# Altium schematic symbol library Capacitor.SchLib: 113 symbols (part 3 of 3)
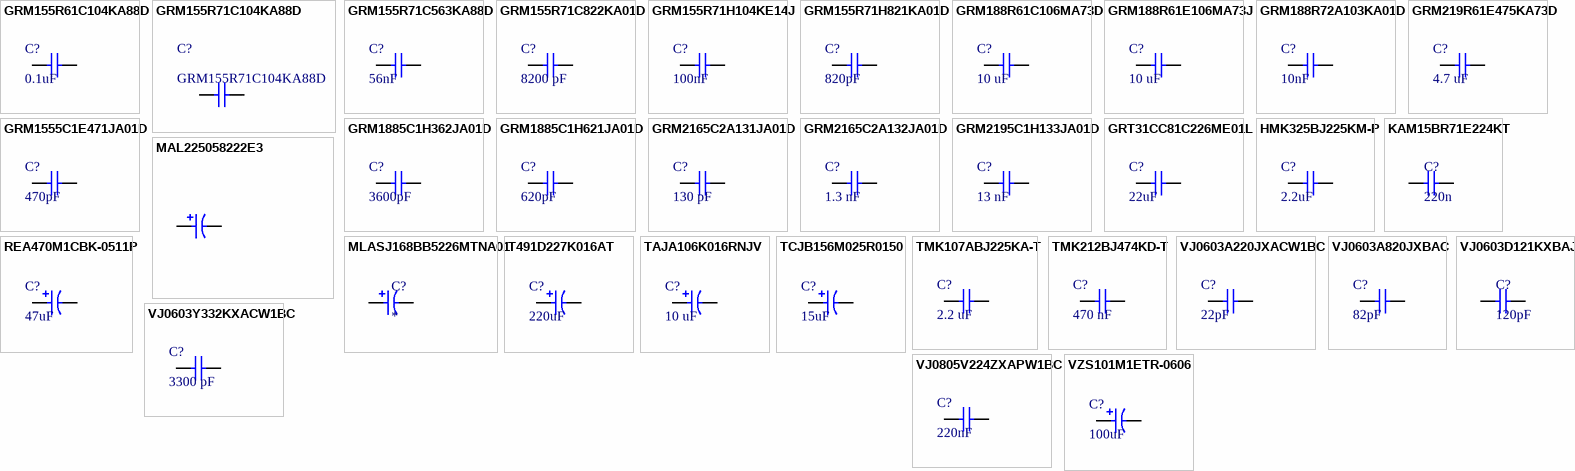
[diagram p4: symbols GRM155R61C104KA88D to VZS101M1ETR-0606]

## GRM155R71C104KA88D
designator C?
CAP CER 100nF 16V X7R 0402; Manufacturer: Murata; Dielectric Material: Ceramic; Multilayer: Yes; Tolerance  (fill in as +-): 10%; Supplier: Future Electronics; Supplier Part Number: 5964861; Part Number: GRM155R71C104KA88D; RoHS: Yes; Category: Ceramic Capacitors; Stock: 34430000; Pricing: 10000=0,0044, 40000=0,0043, 100000=0,0042, 250000=0,004, 400000=0,0039 (USD); Mounting Technology: Surface Mount; Pins: 2; Package Shape: Rectangular; Case/Package: 0402; Terminal Finish: Nickel; Min Operating Temperature: -55°C; Max Operating Temperature: 125°C; JESD-609 Code: e3; Value: 100nF; Capacitor Type: Ceramic; Package Style: SMTMeter; Packaging: Tape and Reel; Tolerance (fill in as +-): 10%; Rated DC Voltage (URdc): 16V; Temperature Characteristics Code: X7R; Termination: Wraparound; Length: 1mm; Width: 0.5mm; Height: 0.5mm; Reach SVHC Compliant: Yes; RoHS Compliant: Yes; ComponentLink1URL: https://psearch.en.murata.com:443/capacitor/product/GRM155R71C104KA88%23.pdf?src-supplier=IHS+Markit; ComponentLink1Description: https://psearch.en.murata.com:443/capacitor/product/GRM155R71C104KA88%23.pdf?src-supplier=IHS+Markit; ComponentLink2URL: https://datasheet.ciiva.com/18102/getdatasheetpartid-85307-18102905.pdf?src-supplier=Verical; ComponentLink2Description: https://datasheet.ciiva.com/18102/getdatasheetpartid-85307-18102905.pdf?src-supplier=Verical; ComponentLink3URL: https://datasheet.ciiva.com/129/grm155r71c104ka88-01-129739.pdf?src-supplier=Digikey; ComponentLink3Description: https://datasheet.ciiva.com/129/grm155r71c104ka88-01-129739.pdf?src-supplier=Digikey; ComponentLink4URL: https://datasheet.ciiva.com/129/grm155r71c104ka88-01-129740.pdf?src-supplier=Digikey; ComponentLink4Description: https://datasheet.ciiva.com/129/grm155r71c104ka88-01-129740.pdf?src-supplier=Digikey; ComponentLink5URL: https://datasheet.ciiva.com/29199/454098-da-01-en-vs-kondensator-0402-29199799.pdf?src-supplier=Conrad; ComponentLink5Description: https://datasheet.ciiva.com/29199/454098-da-01-en-vs-kondensator-0402-29199799.pdf?src-supplier=Conrad; ComponentLink6URL: https://datasheet.ciiva.com/7937/4360-7937615.pdf?src-supplier=Element14; ComponentLink6Description: https://datasheet.ciiva.com/7937/4360-7937615.pdf?src-supplier=Element14; ComponentLink7URL: https://datasheet.ciiva.com/28534/4360-28534127.pdf?src-supplier=Element14; ComponentLink7Description: https://datasheet.ciiva.com/28534/4360-28534127.pdf?src-supplier=Element14; ComponentLink8URL: https://datasheet.ciiva.com/28534/4360-28534133.pdf?src-supplier=Element14; ComponentLink8Description: https://datasheet.ciiva.com/28534/4360-28534133.pdf?src-supplier=Element14; ComponentLink9URL: https://datasheet.ciiva.com/14103/grmseries-highdielectrictype-eng-14103750.pdf?src-supplier=Distrelec; ComponentLink9Description: https://datasheet.ciiva.com/14103/grmseries-highdielectrictype-eng-14103750.pdf?src-supplier=Distrelec; ComponentLink10URL: https://datasheet.ciiva.com/14116/grmseries-highdielectrictype-eng-14116878.pdf?src-supplier=Distrelec; ComponentLink10Description: https://datasheet.ciiva.com/14116/grmseries-highdielectrictype-eng-14116878.pdf?src-supplier=Distrelec; ComponentLink11URL: https://datasheet.ciiva.com/16199/product-16199000.pdf?src-supplier=Future+Electronics; ComponentLink11Description: https://datasheet.ciiva.com/16199/product-16199000.pdf?src-supplier=Future+Electronics
footprint C0402
pins: 1, 2

## GRM155R71C563KA88D
designator C?, comment 56nF
CAP CER 56nF 16V X7R 0402; Manufacturer: MURATA ELECTRONICS; Part Number: GRM155R71C563KA88D; Tolerance: 10%; Library Control - Checked Footprint: Yes; Library Control - Person that Checked Footprint: Cage; Supplier 1: Mouser; Category: Ceramic capacitor; Price: 1=0.15 10=0.07 100=0.031 1000=0.017 (USD); Supplier Part Number 1: 81-GRM155R71C563KA8D; Library Ref: Capacitor; Operating Temperature: -55 ~125ºC; Package / Case: 0402(1005 metric); Size / Dimension: 0.5 mm W x 1 mm L x 0.5 mm H; Value: 56nF; Voltage - Rated: 16V; ESR: -; Dieletric: X7R; Library Control - Checked Schematic: Yes; Library Control - Last Update: 25/08/22; Library Control - Person that Checked Schematic: Cage; Library Control - Person that did the Last Update Footprint: Cage; Library Control - Person that did the Last Update Schematic: Cage; ComponentLink1Description: Datasheet; ComponentLink1URL: https://br.mouser.com/datasheet/2/281/GCM155R71H103KA55_01-1965603.pdf; ComponentLink2Description: Mouser Link; ComponentLink2URL: https://br.mouser.com/ProductDetail/Murata-Electronics/GCM155R71H103KA55D?qs=aEuGZpxfbxUFaK62TPaKIA%3D%3D
footprint C0402
pins: 1, 2

## GRM155R71C822KA01D
designator C?, comment 8200 pF
CAP CER 8.2nF 16V X7R 0402; Manufacturer: MURATA ELECTRONICS; Part Number: GRM155R71C822KA01D; Tolerance: 10%; Voltage - Rated: 16 VDC; Library Control - Checked Footprint: Yes; Library Control - Person that Checked Footprint: Cage; Supplier 1: Mouser; Category: Ceramic capacitor; Price: 1=0,10 10=0,04 100=0,018 1000=0,01 (USD); Supplier Part Number 1: 81-GRM155R71C822KA1D; Library Ref: Capacitor; Operating Temperature: -55°C ~ 125ºC; Package / Case: 0402(1005 metric); Size / Dimension: 1 mm L x 0.5 mm W x 0.5 mm H; Value: 8200 pF; ESR: -; Dieletric: X7R; Library Control - Checked Schematic: Yes; Library Control - Last Update: 25/08/2022; Library Control - Person that Checked Schematic: Cage; Library Control - Person that did the Last Update Footprint: Cage; Library Control - Person that did the Last Update Schematic: Cage; ComponentLink1Description: Datasheet; ComponentLink1URL: https://br.mouser.com/datasheet/2/281/1/GRM155R71C822KA01_01A-1983909.pdf; ComponentLink2Description: Mouser Link; ComponentLink2URL: https://br.mouser.com/ProductDetail/Murata-Electronics/GRM155R71C822KA01D?qs=%2Fha2pyFadujIarpTQ7m9MPaz%252BN%2FQOnj6ABw6ksN0X3HWYLj8s8iz%2Fh%252B3WqSydmOK
footprint C0402
pins: 1, 2

## GRM155R71H104KE14J
designator C?, comment 100nF
CAP CER 100nF 50V X7R 0402; Manufacturer: Murata Eletronics; Part Number: GRM155R71H104KE14J; Tolerance: 10%; Voltage - Rated: 50V DC; Library Control - Checked Footprint: Yes; Library Control - Person that Checked Footprint: Cage; Library Control - Person that did the Last Update Footprint: Chico; Supplier 1: Mouser; Category: Ceramic Capacitors; Price: 1=0.10, 10=0.018, 100=0.015 (USD); Supplier Part Number 1: 81-GRM155R71H104KE4J; Library Ref: Capacitor; Operating Temperature: -55°C~+125°C; Package / Case: 0402; Size / Dimension: 0.5mm X 1mm X 0.5mm; Value: 100nF; Dieletric: X7R; Library Control - Checked Schematic: Yes; Library Control - Last Update: 22/08/2022; Library Control - Person that Checked Schematic: Cage; Library Control - Person that did the Last Update Schematic: Cage; ComponentLink1Description: Datasheet; ComponentLink1URL: https://br.mouser.com/datasheet/2/281/1/GRM155R71H104KE14_01A-1984472.pdf; ComponentLink2Description: Mouser Link; ComponentLink2URL: https://br.mouser.com/ProductDetail/Murata-Electronics/GRM155R71H104KE14J?qs=hNud%2FORuBR3BfRpeqfu6lg%3D%3D
footprint C0402
pins: 1, 2

## GRM155R71H821KA01D
designator C?, comment 820pF
CAP CER 820pF 50V X7R 0402; Manufacturer: MURATA ELECTRONICS; Part Number: GRM155R71H821KA01D; Tolerance: 10%; Library Control - Checked Footprint: Yes; Library Control - Person that Checked Footprint: Cage; Supplier 1: Mouser; Category: Ceramic Capacitors; Price: 1=0,10 10=0,033 100=0,024 1000=0,015 (USD); Supplier Part Number 1: 81-GRM155R71H821KA1D; Library Ref: Capacitor; Operating Temperature: -55°C ~ 125°C; Package / Case: 0402; Size / Dimension: 1 mm L x 0.5 mm W x 0.5 mm H; Value: 820pF; Voltage - Rated: 50V; ESR: -; Dieletric: X7R; Library Control - Checked Schematic: Yes; Library Control - Last Update: 25/08/22; Library Control - Person that Checked Schematic: Cage; Library Control - Person that did the Last Update Footprint: Cage; Library Control - Person that did the Last Update Schematic: Cage; ComponentLink1Description: Datasheet; ComponentLink1URL: https://br.mouser.com/datasheet/2/281/1/GRM155R71H821KA01_01A-1984489.pdf; ComponentLink2Description: Mouser Link; ComponentLink2URL: https://br.mouser.com/ProductDetail/Murata-Electronics/GRM155R71H821KA01D?qs=c4yvaafl%252BAyMGkifja1wHQ%3D%3D
footprint C0402
pins: 1, 2

## GRM188R61C106MA73D
designator C?, comment 10 uF
CAP CER 10uF 16V X5R 0603; Manufacturer: MURATA ELECTRONICS; Part Number: GRM188R61C106MA73D; Tolerance: 20%; Voltage - Rated: 16 VDC; Library Control - Checked Footprint: Yes; Library Control - Person that Checked Footprint: Cage; Supplier 1: Mouser; Category: Ceramic capacitor; Price: 1=0,28 10=0,196 100=0,111 1000=0,076 (USD); Supplier Part Number 1: 81-GRM188R61C106MA3D; Library Ref: Capacitor; Operating Temperature: -55°C ~ 85ºC; Package / Case: 0603(1608 metric); Size / Dimension: 1.6 mm L x 0.8 mm W x 0.8 mm H; Value: 10 uF; ESR: -; Dieletric: X5R; Library Control - Checked Schematic: Yes; Library Control - Last Update: 25/08/22; Library Control - Person that Checked Schematic: Cage; Library Control - Person that did the Last Update Footprint: Cage; Library Control - Person that did the Last Update Schematic: Cage; ComponentLink1Description: Datasheet; ComponentLink1URL: https://br.mouser.com/datasheet/2/281/1/GRM188R61C106MA73_01A-1985803.pdf; ComponentLink2Description: Mouser Link; ComponentLink2URL: https://br.mouser.com/ProductDetail/Murata-Electronics/GRM188R61C106MA73D?qs=OXzh9Ga2KBH8Bmnena8%252BFw%3D%3D
footprint C0603
pins: 1, 2

## GRM188R61E106MA73J
designator C?, comment 10 uF
CAP CER 10uF 25V X5R 0603; Manufacturer: MURATA ELECTRONICS; Part Number: GRM188R61E106MA73J; Tolerance: 20%; Voltage - Rated: 25 VDC; Library Control - Checked Footprint: Yes; Library Control - Person that Checked Footprint: Cage; Library Control - Person that did the Last Update Footprint: Prisma; Supplier 1: Mouser; Category: Ceramic capacitor; Price: 1=0,36 10=0,245 100=0,151 1000=0,096 (USD); Supplier Part Number 1: 81-GRM188R61E106MA3J; Library Ref: Capacitor; Operating Temperature: -55°C ~ 85ºC; Package / Case: 0603(1608 Metric); Size / Dimension: 1.6 mm L x 0.8 mm W x 0.8 mm H; Value: 10 uF; ESR: -; Dieletric: X5R; Library Control - Checked Schematic: Yes; Library Control - Last Update: 25/08/22; Library Control - Person that Checked Schematic: Cage; Library Control - Person that did the Last Update Schematic: Prisma; ComponentLink1Description: Datasheet; ComponentLink1URL: https://br.mouser.com/datasheet/2/281/1/GRM188R61E106MA73_01A-1985806.pdf; ComponentLink2Description: Mouser Link; ComponentLink2URL: https://br.mouser.com/ProductDetail/Murata-Electronics/GRM188R61E106MA73J?qs=hNud%2FORuBR2%252B%252BY67hhW1nA%3D%3D
footprint C0603
pins: 1, 2

## GRM188R72A103KA01D
designator C?, comment 10nF
CAP CER 10nF 100V X7R 0603; Manufacturer: Murata; Part Number: GRM188R72A103KA01D; Tolerance: 10%; Library Control - Checked Footprint: Yes; Library Control - Last Project that Used: Follow-Final; Library Control - Person that Checked Footprint: Lucas; Library Control - Person that did the Last Update Footprint: Mateus(Dimas); Supplier 1: Mouser; Category: Ceramic Capacitors; Price: 1=0,120, 10=0,065, 100=0,033 (USD); Supplier Part Number 1: 81-GRM188R72A103KA1D; Library Ref: Ceramic Capacitors; Operating Temperature: -55°C ~ 125°C; Package / Case: 0603 (1608 Metric); Size / Dimension: 1.6 mm L x   0.8 mm W x  0.8 mm H; Value: 10nF; Voltage - Rated: 100V; Dieletric: X7R; Library Control - Checked Schematic: Yes; Library Control - Last Update: 24/04/2021 00:25; Library Control - Person that Checked Schematic: Lucas; Library Control - Person that did the Last Update Schematic: Mateus(Dimas); ComponentLink1Description: Datasheet; ComponentLink1URL: https://br.mouser.com/datasheet/2/281/1/GRM188R72A103KA01_01A-1985966.pdf; ComponentLink2Description: Mouser Link; ComponentLink2URL: https://br.mouser.com/ProductDetail/Murata-Electronics/GRM188R72A103KA01D?qs=krk%2F6UQjCzAtl9phuocbug%3D%3D; ComponentLink3Description: ESR; ComponentLink3URL: https://www.murata.com/products/productdetail?partno=GRM188R72A103KA01%23
footprint C0603
pins: 1, 2

## GRM219R61E475KA73D
designator C?, comment 4.7 uF
CAP CER 4.7uF 25V X5R 0805; Manufacturer: MURATA ELECTRONICS; Part Number: GRM219R61E475KA73D; Tolerance: 10%; Voltage - Rated: 25 VDC; Library Control - Checked Footprint: Yes; Library Control - Person that Checked Footprint: Cage; Supplier 1: Mouser; Category: Ceramic Capacitors; Price: 1=0,28 10=0,193 100=0,098 1000=0,059 (USD); Supplier Part Number 1: 81-GRM219R61E475KA73D; Library Ref: Capacitor; Operating Temperature: -55°C ~ 85°C; Package / Case: 0805(2012 metric); Size / Dimension: 2 mm L x 1.25 mm W x 0.85 mm H; ESR: -; Dieletric: X5R; Library Control - Checked Schematic: Yes; Library Control - Last Update: 25/08/22; Library Control - Person that Checked Schematic: Cage; Library Control - Person that did the Last Update Footprint: Cage; Library Control - Person that did the Last Update Schematic: Cage; ComponentLink1Description: Datasheet; ComponentLink1URL: https://br.mouser.com/datasheet/2/281/1/GRM219R61E475KA73_01A-1986363.pdf; ComponentLink2Description: Mouser Link; ComponentLink2URL: https://br.mouser.com/ProductDetail/Murata-Electronics/GRM219R61E475KA73D?qs=%2Fha2pyFadui1540apPxqrcvNL2Od6%2FE9q78FE8iyERiL9ZO4NhnlONCgyc%2FC2rEQ; Value: 4.7 uF
footprint C0805
pins: 1, 2

## GRM1555C1E471JA01D
designator C?, comment 470pF
CAP CER 470pF 25V C0G 0402; Manufacturer: MURATA ELECTRONICS; Part Number: GRM1555C1E471JA01D; Tolerance: 5%; Voltage - Rated: 25 VDC; Library Control - Checked Schematic: Tico Liro; Supplier 1: Mouser; Category: Ceramic Capacitors; Price: 1=0,19 10=0,089 100=0,042 1000=0,025 (USD); Supplier Part Number 1: 81-GRM1555C1E471JA1D; Library Ref: Capacitor; Operating Temperature: -55°C ~ 125°C; Package / Case: 0805(2012 metric); Size / Dimension: 1 mm L x 0.5 mm W x 0.5 mm H; Value: 470pF; ESR: -; Dieletric: C0G; Library Control - Last Update: 24/09/2021; Library Control - Person that Checked Schematic: Tico Liro; ComponentLink1Description: Datasheet; ComponentLink1URL: https://br.mouser.com/datasheet/2/281/1/GRM1555C1E471JA01_01A-1982315.pdf; ComponentLink2Description: Mouser Link; ComponentLink2URL: https://br.mouser.com/ProductDetail/Murata-Electronics/GRM1555C1E471JA01D?qs=%2Fha2pyFadujIarpTQ7m9MMrKt3VdMx9760S2FZesvucE9bBGXQJiXs5yP8jIgXXH
footprint C0402
pins: 1, 2

## GRM1885C1H362JA01D
designator C?, comment 3600pF
CAP CER 3.6nF 50V C0G 0603; Manufacturer: Murata; Part Number: GRM1885C1H362JA01D; Tolerance: 5%; Library Control - Checked Footprint: Yes; Library Control - Person that Checked Footprint: Cage; Supplier 1: Mouser; Category: Ceramic Capacitor; Price: 1=0,19, 10=0,135, 100=0,064 (USD); Supplier Part Number 1: 81-GRM1885C1H362JA1D; Library Ref: Capacitor; Operating Temperature: -55 C ~ 125 C; Package / Case: 0603 (1608 metric); Size / Dimension: 1,6 L x 0,8 W x 0,8 H; Value: 3600pF; Voltage - Rated: 50V; Dieletric: C0G; Library Control - Checked Schematic: Yes; Library Control - Last Update: 25/08/22; Library Control - Person that Checked Schematic: Cage; Library Control - Person that did the Last Update Footprint: Cage; Library Control - Person that did the Last Update Schematic: Cage; ComponentLink1Description: Mouser Link; ComponentLink1URL: https://br.mouser.com/ProductDetail/Murata-Electronics/GRM1885C1H362JA01D?qs=MY6wChARw2waaHUsAqml6Q%3D%3D; ComponentLink2Description: Datasheet; ComponentLink2URL: https://br.mouser.com/datasheet/2/281/1/GRM1885C1H362JA01_01A-1984827.pdf
footprint C0603
pins: 1, 2

## GRM1885C1H621JA01D
designator C?, comment 620pF
CAP CER 620pF 50V C0G 0603; Manufacturer: MURATA ELECTRONICS; Part Number: GRM1885C1H621JA01D; Tolerance: 5%; Voltage - Rated: 50VDC; Dieletric: C0G (NP0); Library Control - Checked Footprint: Yes; Library Control - Person that Checked Footprint: Cage; Supplier 1: Mouser; Category: Ceramic capacitor; Price: 1=0.21 10=0.15 100=0.07 1000=0.04 (USD); Supplier Part Number 1: 81-GRM1885C1H621JA1D; Library Ref: Capacitor; Operating Temperature: -55 ~125ºC; Package / Case: 0603(1608 metric); Size / Dimension: 0.8 mm W x 1.6 mm L x 0.8 mm H; Value: 620pF; ESR: -; Library Control - Checked Schematic: Yes; Library Control - Last Update: 25/08/22; Library Control - Person that Checked Schematic: Cage; Library Control - Person that did the Last Update Footprint: Cage; Library Control - Person that did the Last Update Schematic: Cage; ComponentLink1Description: Datasheet; ComponentLink1URL: https://br.mouser.com/datasheet/2/281/1/GRM1885C1H621JA01_01A-1985038.pdf; ComponentLink2Description: Mouser Link; ComponentLink2URL: https://br.mouser.com/ProductDetail/Murata-Electronics/GRM1885C1H621JA01D?qs=%2Fha2pyFaduhBNtsLpLyKa2ATz5ahfmPAnBOsBA5D8iaeejB5GRLmJktjF0M6JlDO
footprint C0603
pins: 1, 2

## GRM2165C2A131JA01D
designator C?, comment 130 pF
CAP CER 130 pF 100V C0G 0603; Manufacturer: Murata; Part Number: GRM2165C2A131JA01D; Tolerance: 5%; Library Control - Checked Footprint: Yes; Supplier 1: Mouser; Category: Ceramic Capacitors; Price: 1=0,16 10=0,086 100=0,052 1000=0,032 (USD); Supplier Part Number 1: 81-GRM2165C2A131JA1D; Library Ref: Capacitor; Operating Temperature: -55°C ~ 125°C; Package / Case: 0603; Size / Dimension: 1.6 mm L x 0.81 mm W x 0.9 mm H; Value: 130 pF; Voltage - Rated: 100V; ESR: -; Dieletric: C0G; Library Control - Checked Schematic: Yes; ComponentLink1Description: Datasheet; ComponentLink1URL: https://br.mouser.com/datasheet/2/281/1/GRM2165C2A131JA01_01A-1986084.pdf; ComponentLink2Description: Mouser Link; ComponentLink2URL: https://br.mouser.com/ProductDetail/Murata-Electronics/GRM2165C2A131JA01D?qs=3Vu9ppaVHS6LSw3Df5B%2FNQ%3D%3D
footprint C0603
pins: 1, 2

## GRM2165C2A132JA01D
designator C?, comment 1.3 nF
CAP CER 1.3nF 100V C0G 0805; Manufacturer: MURATA ELECTRONICS; Part Number: GRM2165C2A132JA01D; Tolerance: 5%; Voltage - Rated: 100 VDC; Library Control - Checked Footprint: Yes; Supplier 1: Mouser; Category: Ceramic Capacitors; Price: 1=0,28 10=0,193 100=0,098 1000=0,059 (USD); Supplier Part Number 1: 81-GRM2165C2A132JA1D; Library Ref: Capacitor; Operating Temperature: -55°C ~ 125°C; Package / Case: 0805(2012 metric); Size / Dimension: 2 mm L x 1.25 mm W x 0.85 mm H; ESR: -; Dieletric: C0G; Library Control - Checked Schematic: Yes; ComponentLink1Description: Datasheet; ComponentLink1URL: https://br.mouser.com/datasheet/2/281/1/GRM2165C2A132JA01_01A-1986102.pdf; ComponentLink2Description: Mouser Link; ComponentLink2URL: https://br.mouser.com/ProductDetail/Murata-Electronics/GRM2165C2A132JA01D?qs=MY6wChARw2yDOaR3qurTEA%3D%3D; Value: 1.3 nF
footprint C0805
pins: 1, 2

## GRM2195C1H133JA01D
designator C?, comment 13 nF
CAP CER 13nF 50V C0G 0805; Manufacturer: MURATA ELECTRONICS; Part Number: GRM2195C1H133JA01D; Tolerance: 5%; Voltage - Rated: 50 VDC; Dieletric: C0G (NP0); Library Control - Checked Schematic: Guilherme; Library Control - Person that did the Last Update Footprint: Raquel; Library Control - Person that did the Last Update Schematic: Marcos; Supplier 1: Mouser; Category: Ceramic capacitor; Price: 1=0,43 10=0,30 100=0,179 1000=0,113 (USD); Supplier Part Number 1: 81-GRM2195C1H133JA1D; Library Ref: Capacitor; Operating Temperature: -55°C ~125ºC; Package / Case: 0805(2012 Metric); Size / Dimension: 2 mm L x 1.25 mm W x 0.85 mm H; Value: 13 nF; ESR: -; Library Control - Last Update: 27/06/21 16:31; Library Control - Person that Checked Schematic: Guilherme; ComponentLink1Description: Datasheet; ComponentLink1URL: https://br.mouser.com/datasheet/2/281/1/GRM2195C1H133JA01_01A-1986202.pdf; ComponentLink2Description: Mouser Link; ComponentLink2URL: https://br.mouser.com/ProductDetail/Murata-Electronics/GRM2195C1H133JA01D?qs=%2Fha2pyFadugq0yC%2Fv5omHUTczO%252BCVbAU6i8B0TO1VQl6hUmSBMEOshXkhaFOjXqb
footprint C0805
pins: 1, 2

## GRT31CC81C226ME01L
designator C?, comment 22uF
CAP CER 22uF 16V X6S 1206; Manufacturer: Murata; Part Number: GRT31CC81C226ME01L; Tolerance: 20%; Library Control - Checked Footprint: Yes; Library Control - Person that Checked Footprint: Cage; Library Control - Person that did the Last Update Footprint: Prisma; Supplier 1: Mouser; Category: Ceramic Capacitor; Price: 1=0,52 10=0,279 100=0,243 (USD); Supplier Part Number 1: 81-GRT31CC81C226ME1L; Library Ref: Capacitor; Operating Temperature: -55°C ~ 105°C; Package / Case: 1206 (3216 metric); Size / Dimension: 3.2mm x 1.6mm x 1.6mm; Value: 22uF; Voltage - Rated: 16V; ESR: -; Dieletric: X6S; Library Control - Checked Schematic: Yes; Library Control - Last Update: 22/08/22; Library Control - Person that Checked Schematic: Cage; Library Control - Person that did the Last Update Schematic: Prisma; ComponentLink1Description: Datasheet; ComponentLink1URL: https://br.mouser.com/datasheet/2/281/GRT31CC81C226ME01-01-1065052.pdf; ComponentLink2Description: Mouser Link; ComponentLink2URL: https://br.mouser.com/ProductDetail/Murata-Electronics/GRT31CC81C226ME01L?qs=drgMNd%252BkGPOW3iII7WtxFg%3D%3D
footprint C1206
pins: 1, 2

## HMK325BJ225KM-P
designator C?, comment 2.2uF
CAP CER 2.2uF 100V X5R 1210; Manufacturer: Taiyo Yuden; Part Number: HMK325BJ225KM-P; Tolerance: 10%; Library Control - Checked Footprint: Yes; Library Control - Person that Checked Footprint: Cage; Supplier 1: Mouser; Category: Ceramic Capacitors; Price: 1=0,54 10=0,361 100=0,254 1000=0,16 (USD); Supplier Part Number 1: 963-HMK325BJ225KM-P; Library Ref: Capacitor; Operating Temperature: -55°C ~ 85°C; Package / Case: 1219; Size / Dimension: 3.2 mm L x 2.5 mm W x 2.7 mm H; Value: 2.2uF; Voltage - Rated: 100V; ESR: -; Dieletric: X5R; Library Control - Checked Schematic: Yes; Library Control - Last Update: 25/08/22; Library Control - Person that Checked Schematic: Cage; Library Control - Person that did the Last Update Footprint: Cage; Library Control - Person that did the Last Update Schematic: Cage; ComponentLink1Description: Datasheet; ComponentLink1URL: https://br.mouser.com/datasheet/2/396/mlcc02_e-1307760.pdf; ComponentLink2Description: Mouser Link; ComponentLink2URL: https://br.mouser.com/ProductDetail/Taiyo-Yuden/HMK325BJ225KM-P?qs=%2Fha2pyFadujVrJbdJsCX2yzJHQWVMjQhn%2FPuryNxr%252BYZuErBeUnHbbqse6xr3zwb
footprint C1210
pins: 1, 2

## KAM15BR71E224KT
designator C?, comment 220n
CAP CER 220nF 25V X7R 0603; Manufacturer: Kyocera AVX; Manufacturer Part Number: KAM15BR71E224KT; Supplier: Mouser; Supplier Part Number: 581-KAM15BR71E224KT; RoHS: No; Category: Uncategorized; Stock: 10231; Pricing: 1=0,15, 10=0,115, 50=0,115, 100=0,059, 1000=0,036, 10000=0,028 (USD); ComponentLink1Description: Mouser; ComponentLink1URL: https://br.mouser.com/ProductDetail/KYOCERA-AVX/KAM15BR71E224KT?qs=sGAEpiMZZMukHu%252BjC5l7YcmRMYNDachgtCzOP%2FoSiWU%3D; ComponentLink2Description: Datasheet; ComponentLink2URL: https://br.mouser.com/datasheet/2/40/AutoMLCCKAM-3216307.pdf
footprint C0603
pins: 1, 2

## MAL225058222E3
designator C?, comment 2200uF
CAP POL 2200uF 63V 20% 12,5 x 25; Manufacturer: Vishay; Manufacturer Part Number: MAL225058222E3; Capacitor Type: Aluminium; Supplier: Mouser; Supplier Part Number: 594-MAL225058222E3; RoHS: Yes; Category: Capacitors; Stock: 153; Pricing: 1=4,94, 10=4,25, 50=3,86, 100=3,18, 1000=2,82, 10000=2,82 (USD); Pins: 2; Reach SVHC Compliant: Yes; RoHS Compliant: Yes; ComponentLink1URL: https://datasheet.ciiva.com:443/pdfs/VipMasterIC/IC/VISH/VISH-S-A0006279289/VISH-S-A0006279289-1.pdf?src-supplier=IHS+Markit; ComponentLink1Description: https://datasheet.ciiva.com:443/pdfs/VipMasterIC/IC/VISH/VISH-S-A0006279289/VISH-S-A0006279289-1.pdf?src-supplier=IHS+Markit; Value: 2200uF
footprint MAL225058222E3
pins: 1, 2

## MLASJ168BB5226MTNA01
designator C?
CAP SMD 22uF 6.3V X5R 0603; Manufacturer: Wurth Electronics; Manufacturer Part Number: 885012109014; Dielectric Material: Ceramic; Multilayer: Yes; Tolerance  (fill in as +-): 20%; Rated DC Voltage (URdc): 25V; Supplier: Digikey; Supplier Part Number: 732-7385-1-ND; RoHS: Yes; Category: Ceramic Capacitors; Stock: 2124; Pricing: 1=3,1, 10=2,814, 100=2,522, 500=2,228 (USD); Mounting Technology: Surface Mount; Pins: 2; Package Shape: Rectangular; Case/Package: 1210; Terminal Finish: Nickel; Min Operating Temperature: -55°C; Max Operating Temperature: 85°C; JESD-609 Code: e3; Value: 22uF; Capacitor Type: Ceramic; Tolerance (fill in as +-): 20%; Temperature Characteristics Code: X5R; Termination: Wraparound; Reach SVHC Compliant: Yes; RoHS Compliant: Yes; ComponentLink1URL: https://datasheet.ciiva.com:443/pdfs/VipMasterIC/IC/MIDC/MIDC-S-A0001525369/MIDC-S-A0001525317-1.pdf?src-supplier=IHS+Markit; ComponentLink1Description: https://datasheet.ciiva.com:443/pdfs/VipMasterIC/IC/MIDC/MIDC-S-A0001525369/MIDC-S-A0001525317-1.pdf?src-supplier=IHS+Markit; ComponentLink2URL: http://www.farnell.com/datasheets/1958464.pdf?src-supplier=Farnell; ComponentLink2Description: http://www.farnell.com/datasheets/1958464.pdf?src-supplier=Farnell; ComponentLink3URL: https://datasheet.octopart.com/885012109014-Wurth-Elektronik-datasheet-168510073.pdf?src-supplier=Farnell; ComponentLink3Description: https://datasheet.octopart.com/885012109014-Wurth-Elektronik-datasheet-168510073.pdf?src-supplier=Farnell; ComponentLink4URL: https://katalog.we-online.de/pbs/datasheet/885012109014.pdf?src-supplier=Digikey; ComponentLink4Description: https://katalog.we-online.de/pbs/datasheet/885012109014.pdf?src-supplier=Digikey; ComponentLink5URL: https://datasheet.octopart.com/885012109014-W%C3%BCrth-Elektronik-datasheet-62053742.pdf?src-supplier=Element14; ComponentLink5Description: https://datasheet.octopart.com/885012109014-W%C3%BCrth-Elektronik-datasheet-62053742.pdf?src-supplier=Element14; ComponentLink6URL: http://www.farnell.com/datasheets/1958464.pdf?src-supplier=Element14; ComponentLink6Description: http://www.farnell.com/datasheets/1958464.pdf?src-supplier=Element14
footprint C0603
pins: 1, 2

## REA470M1CBK-0511P
designator C?, comment 47uF
CAP POL 47uF 16V 5mm x 11mm; Manufacturer: Lelon; Part Number: REA470M1CBK-0511P; Tolerance: 20%; Dieletric: Aluminum; Library Control - Checked Footprint: Yes; Library Control - Person that Checked Footprint: Nikaum; Library Control - Person that did the Last Update Footprint: Prisma; Supplier 1: Mouser; Category: Electrolytic Capacitors; Price: 1=0,10, 10=0,073, 100=0,063 (USD); Supplier Part Number 1: 140-REA470M1CBK0511P; Library Ref: Capacitor; Operating Temperature: -40 C ~ 85 C; Package / Case: Radial; Size / Dimension: 5,00 D x 11,00 L x 2,00 LS; Value: 47uF; Voltage - Rated: 16V; ESR: -; Library Control - Checked Schematic: Yes; Library Control - Last Update: 25/08/22; Library Control - Person that Checked Schematic: Nikaum; Library Control - Person that did the Last Update Schematic: Prisma; ComponentLink1Description: Datasheet; ComponentLink1URL: https://br.mouser.com/datasheet/2/231/lelon_REA[1]-1174811.pdf; ComponentLink2Description: Mouser Link; ComponentLink2URL: https://br.mouser.com/ProductDetail/Lelon/REA470M1CBK-0511P?qs=%2Fha2pyFadug3cXN2g6VXipmAHgf4kS207oVHgWh3Gpv974Y%2F3Lka8m1t8JmisrNc
footprint PTH Ø5x11mm
pins: 1, 2

## T491D227K016AT
designator C?, comment 220uF
CAP TAN 10uF 16V 0805; Manufacturer: KEMET; Part Number: T491D227K016AT; Tolerance: 10%; Voltage - Rated: 16V DC; ESR: 83mOhms; Dieletric: MnO2; Library Control - Checked Footprint: Yes; Library Control - Person that Checked Footprint: Cage; Library Control - Person that did the Last Update Footprint: Chico; Supplier 1: Mouser; Category: Tantalum Capacitor; Price: 1=2.10, 10=1.66, 50=1.44, 100=1.41; Supplier Part Number 1: 80-T491D227K016AT; Library Ref: Capacitor; Operating Temperature: -55°C~125°C; Package / Case: 2917; Size / Dimension: 4.30mm X 7.30mm X 3.10mm; Value: 220uF; Library Control - Checked Schematic: Yes; Library Control - Last Update: 22/08/22; Library Control - Person that Checked Schematic: Cage; Library Control - Person that did the Last Update Schematic: Cage; ComponentLink1Description: Datasheet; ComponentLink1URL: https://br.mouser.com/datasheet/2/212/1/KEM_T2005_T491-1093550.pdf; ComponentLink2Description: Mouser Link; ComponentLink2URL: https://br.mouser.com/ProductDetail/KEMET/T491D227K016AT?qs=%2Fha2pyFadugEFHGd2Qjt9V%252B5I5oYNHje1fT83Q3RPxPR60FKRg5zmA%3D%3D
footprint C2917
pins: 1, 2

## TAJA106K016RNJV
designator C?, comment 10 uF
CAP TAN 10uF 16V 1206; Manufacturer: AVX; Part Number: TAJA106K016RNJV; Tolerance: 10%; ESR: 3 Ohms; Library Control - Checked Footprint: Yes; Library Control - Person that Checked Footprint: Nícolas; Supplier 1: Mouser; Category: Tantalum Capacitors; Price: 1 = 0.35, 10 = 0.248, 100 = 0.149 (USD); Supplier Part Number 1: 581-TAJA106K016RNJV; Library Ref: Capacitor; Operating Temperature: -55~125 °C; Package / Case: 1206; Size / Dimension: 3.2 L x 1.6 W x 1.6 H; Value: 10 uF; Voltage - Rated: 16 V; Dieletric: -; Library Control - Checked Schematic: Yes; Library Control - Last Project that Used: -; Library Control - Last Update: 04/09/2021; Library Control - Person that Checked Schematic: Nícolas; Library Control - Person that did the Last Update Footprint: Nícolas; Library Control - Person that did the Last Update Schematic: Nícolas; ComponentLink1Description: Mouser Link; ComponentLink1URL: https://br.mouser.com/ProductDetail/AVX/TAJA106K016RNJV?qs=sGAEpiMZZMtZ1n0r9vR22YmJcuFVaFLxTkR48jUhfncUJTCDNVdZsA%3D%3D; ComponentLink2Description: Datasheet; ComponentLink2URL: https://4donline.ihs.com/images/VipMasterIC/IC/AVXC/AVXCS07068/AVXCS07068-1.pdf?hkey=CECEF36DEECDED6468708AAF2E19C0C6
footprint TANTALUM C1206
pins: 1, 2

## TCJB156M025R0150
designator C?, comment 15uF
CAP TAN 15uF 25V 1210; Manufacturer: Kyocera AVX; Part Number: TCJB156M025R0150; Tolerance: 20%; Voltage - Rated: 25V DC; ESR: 150mOhms; Library Control - Checked Footprint: Yes; Library Control - Person that Checked Footprint: Cage; Supplier 1: Mouser; Category: Tantalum Capacitors; Price: 1=0.92, 10=0.692, 100=0.482 (USD); Supplier Part Number 1: 581-TCJB156M025R0150; Datasheet: https://br.mouser.com/datasheet/2/40/TCJ-2297928.pdf; Library Ref: Capacitor; Mouser Link: https://br.mouser.com/ProductDetail/Kyocera-AVX/TCJB156M025R0150?qs=6RPrPjhwTH9idKpH9QbHMw%3D%3D; Operating Temperature: -55°C~+105°C; Package / Case: 1210; Size / Dimension: 2.8mm X 3.5mm X 1.9mm; Value: 15uF; Library Control - Checked Schematic: Yes; Library Control - Last Update: 22/08/22; Library Control - Person that Checked Schematic: Cage; Library Control - Person that did the Last Update Footprint: Cage; Library Control - Person that did the Last Update Schematic: Cage; ComponentLink1Description: Datasheet; ComponentLink1URL: https://br.mouser.com/datasheet/2/40/TCJ-2297928.pdf; ComponentLink2Description: Mouser Link; ComponentLink2URL: https://br.mouser.com/ProductDetail/Kyocera-AVX/TCJB156M025R0150?qs=6RPrPjhwTH9idKpH9QbHMw%3D%3D
footprint TANTALUM C1210
pins: 1, 2

## TMK107ABJ225KA-T
designator C?, comment 2.2 uF
CAP CER 2.2uF 25V X5R 0603; Manufacturer: TAIYO YUDEN; Part Number: TMK107ABJ225KA-T; Tolerance: 10 %; Voltage - Rated: 25 VDC; Library Control - Person that did the Last Update Footprint: Tatá; Supplier 1: Mouser; Category: Multilayer Ceramic Capacitors MLCC - SMD/SMT; Price: 1= $0.14 10= $0.066 100= 0.039 (USD); Supplier Part Number 1: 963-TMK107ABJ225KA-T; Library Ref: Capacitor; Operating Temperature: -55 ~ 85 C; Package / Case: 0603 (1608 metric); Size / Dimension: 1.6 mm x 0.8 mm; Value: 2.2 uF; ESR: -; Dieletric: X5R; Library Control - Last Update: 19/11/23; Library Control - Person that did the Last Update Schematic: Tatá; ComponentLink1Description: Mouser Link; ComponentLink1URL: https://br.mouser.com/ProductDetail/TAIYO-YUDEN/TMK107ABJ225KA-T?qs=PzICbMaShUcMwZHbdxdUHw%3D%3D; ComponentLink2Description: Datasheet; ComponentLink2URL: https://br.mouser.com/datasheet/2/396/mlcc02_e-1307760.pdf
footprint C0603
pins: 1, 2

## TMK212BJ474KD-T
designator C?, comment 470 nF
CAP CER 470nF 25V X5R 0805; Manufacturer: Taiyo Yuden; Part Number: TMK212BJ474KD-T; Tolerance: 10%; Library Control - Checked Footprint: Yes; Library Control - Person that Checked Footprint: Cage; Supplier 1: Mouser; Category: Ceramic Capacitor; Price: 1= 0,14, 10= 0,101, 100= 0,047 (USD); Supplier Part Number 1: 963-TMK212BJ474KD-T; Library Ref: Capacitor; Operating Temperature: -55C ~ +85C; Package / Case: 0805 (2012 metric); Size / Dimension: 0.95mm x 2mm x 1.25mm (HxLxW); Value: 470 nF; Voltage - Rated: 25V; ESR: -; Dieletric: X5R; Library Control - Checked Schematic: Yes; Library Control - Last Update: 25/08/22; Library Control - Person that Checked Schematic: Cage; Library Control - Person that did the Last Update Footprint: Cage; Library Control - Person that did the Last Update Schematic: Cage; ComponentLink1Description: Mouser Link; ComponentLink1URL: https://br.mouser.com/ProductDetail/Taiyo-Yuden/TMK212BJ474KD-T?qs=%2Fha2pyFadujqVbgFjaatoGV0w6pr7fhflB5drHSyxxA7io3xAuN4RA%3D%3D; ComponentLink2Description: Datasheet; ComponentLink2URL: https://br.mouser.com/datasheet/2/396/mlcc02_e-1307760.pdf
footprint C0805
pins: 1, 2

## VJ0603A220JXACW1BC
designator C?, comment 22pF
CAP CER 22pF 50V C0G 0603; Manufacturer: Vishay / Vitramon; Part Number: VJ0603A220JXACW1BC; Tolerance: 5%; Dieletric: C0G (NP0); Library Control - Checked Footprint: Yes; Library Control - Person that Checked Footprint: Cage; Supplier 1: Mouser; Category: Ceramic Capacitor; Price: 1=0.12 10=0.10 100=0.034 (USD); Supplier Part Number 1: 77-VJ0603A220JXACBC; Library Ref: Capacitor; Operating Temperature: -55°C ~ 125°C; Package / Case: 0603(1608 Metric); Size / Dimension: 1.6 mm L x 0.8 mm W x 0.8 mm H; Value: 22pF; Voltage - Rated: 50V; ESR: -; Library Control - Checked Schematic: Yes; Library Control - Last Update: 25/08/22; Library Control - Person that Checked Schematic: Cage; Library Control - Person that did the Last Update Footprint: Cage; Library Control - Person that did the Last Update Schematic: Cage; ComponentLink1Description: Datasheet; ComponentLink1URL: https://br.mouser.com/datasheet/2/427/vjw1bcbascomseries-1762447.pdf; ComponentLink2Description: Mouser Link; ComponentLink2URL: https://br.mouser.com/ProductDetail/Vishay-Vitramon/VJ0603A220JXACW1BC?qs=%2Fha2pyFadugmaY2qV1RTVmNr1XR6Zlrm2jKt4nk4Suj9Ry7DQsWoKg%3D%3D
footprint C0603
pins: 1, 2

## VJ0603A820JXBAC
designator C?, comment 82pF
CAP CER 82pF 100V C0G 0603; Manufacturer: Vishay; Part Number: VJ0603A820JXBAC; Tolerance: 5%; Library Control - Checked Footprint: Yes; Supplier 1: Mouser; Category: Ceramic Capacitors; Price: 1=0,16 10=0,086 100=0,052 1000=0,032 (USD); Supplier Part Number 1: 77-VJ0603A820JXBAC; Library Ref: Capacitor; Operating Temperature: -55°C ~ 150°C; Package / Case: 0603; Size / Dimension: 1.6 mm L x 0.81 mm W x 0.9 mm H; Value: 82pF; Voltage - Rated: 100V; ESR: -; Dieletric: C0G; Library Control - Checked Schematic: Yes; ComponentLink1Description: Datasheet; ComponentLink1URL: https://br.mouser.com/datasheet/2/427/vjcommercialseries-1764145.pdf; ComponentLink2Description: Mouser Link; ComponentLink2URL: https://br.mouser.com/ProductDetail/Vishay-Vitramon/VJ0603A820JXBAC?qs=wKTsiQdlzy6wAoUoLV5LLQ%3D%3D
footprint C0603
pins: 1, 2

## VJ0603D121KXBAJ
designator C?, comment 120pF
CAP CER 120pF 100V X7R 0603; Manufacturer: Vishay Vitramon; Manufacturer Part Number: VJ0603D121KXBAJ; Tolerance: 10%; Dielectric: C0G; Temperature Coefficient: 30ppm/°C; Supplier: Mouser; Supplier Part Number: 77-VJ0603D121KXBAJ; RoHS: Yes; Category: Ceramic Capacitors; Stock: 36799; Pricing: 1=0,29, 10=0,133, 50=0,133, 100=0,08, 1000=0,069, 10000=0,054 (USD); Mounting Technology: Surface Mount,PCB; Case/Package: 0603; Case Code (Metric): 1608; Case Code (Imperial): 0603; Min Operating Temperature: -55°C; Max Operating Temperature: 125°C; Voltage Rating: 100V; Value: 120pF; Packaging: Cut Tape; Voltage Rating (DC): 100V; Termination: SMD/SMT; Voltage: 100V; Series: VJ HIFREQ; Construction: Flat; Length: 1.6mm; Width: 0.8mm; Height: 0.94mm; Depth: 0.8mm; Radiation Hardening: No; Lead Free: Lead Free; RoHS Compliant: Yes; Reach SVHC Compliant: Unknown; ComponentLink1URL: https://datasheet.ciiva.com/30503/0900766b812428e7-30503211.pdf?src-supplier=Rs; ComponentLink1Description: https://datasheet.ciiva.com/30503/0900766b812428e7-30503211.pdf?src-supplier=Rs; ComponentLink2URL: https://datasheet.ciiva.com/11475/vjhifreq-11475534.pdf?src-supplier=Avnet; ComponentLink2Description: https://datasheet.ciiva.com/11475/vjhifreq-11475534.pdf?src-supplier=Avnet; ComponentLink3URL: https://datasheet.ciiva.com/11478/vjhifreq-11478283.pdf?src-supplier=Avnet; ComponentLink3Description: https://datasheet.ciiva.com/11478/vjhifreq-11478283.pdf?src-supplier=Avnet; ComponentLink4URL: https://datasheet.ciiva.com/7974/1631376-7974942.pdf?src-supplier=Element14; ComponentLink4Description: https://datasheet.ciiva.com/7974/1631376-7974942.pdf?src-supplier=Element14; ComponentLink5URL: https://datasheet.ciiva.com/6285/vjhifreq-6285925.pdf?src-supplier=Digi-Key; ComponentLink5Description: https://datasheet.ciiva.com/6285/vjhifreq-6285925.pdf?src-supplier=Digi-Key; ComponentLink6URL: https://datasheet.ciiva.com/6285/vjhifreq-6285928.pdf?src-supplier=Digi-Key; ComponentLink6Description: https://datasheet.ciiva.com/6285/vjhifreq-6285928.pdf?src-supplier=Digi-Key; ComponentLink7URL: https://datasheet.ciiva.com/16511/vj0402dseries-16511367.pdf?src-supplier=Future+Electronics; ComponentLink7Description: https://datasheet.ciiva.com/16511/vj0402dseries-16511367.pdf?src-supplier=Future+Electronics; ComponentLink8Description: Mouser; ComponentLink8URL: https://br.mouser.com/ProductDetail/Vishay-Vitramon/VJ0603D121KXBAJ?qs=f%252BL2SN1GfctWhDNaXZI1mg%3D%3D
footprint C0603
pins: 1, 2

## VJ0603Y332KXACW1BC
designator C?, comment 3300 pF
CAP CER 3300 pF 50V X7R 0603; Manufacturer: Vishay; Part Number: VJ0603Y332KXACW1BC; Tolerance: 10%; Supplier 1: Mouser; Category: Ceramic Capacitors; Price: 1=0,120, 10=0,065, 100=0,033 (USD); Supplier Part Number 1: 77-VJ0603Y332KXACBC; Library Ref: Ceramic Capacitors; Operating Temperature: -55°C ~ 125°C; Package / Case: 0603 (1608 Metric); Size / Dimension: 1.6 mm L x   0.8 mm W x  0.8 mm H; Value: 3300 pF; Voltage - Rated: 50V; Dieletric: X7R; ComponentLink1Description: Datasheet; ComponentLink1URL: https://br.mouser.com/datasheet/2/427/vjw1bcbascomseries-1762447.pdf; ComponentLink2Description: Mouser Link; ComponentLink2URL: https://br.mouser.com/ProductDetail/Vishay-Vitramon/VJ0603Y332KXACW1BC?qs=IMQnYn3Dp6%252BGXLqfUTXFPg%3D%3D
footprint C0603
pins: 1, 2

## VJ0805V224ZXAPW1BC
designator C?, comment 220nF
CAP CER 220nF 50V Y5V 0805; Manufacturer: Vishay; Part Number: VJ0805V224ZXAPW1BC; Tolerance: 20%; Library Control - Checked Footprint: Yes; Library Control - Person that Checked Footprint: Cage; Supplier 1: Mouser; Category: Ceramic Capacitor; Price: 1=0.34 10=0.23 100=0.142 1000=0.09 (USD); Supplier Part Number 1: 77-VJ0805V224ZXAPBC; Library Ref: Capacitor; Operating Temperature: -25°C ~ 85°C; Package / Case: 0805(2012 metric); Size / Dimension: 2 mm L x 1.25 mm W x 0.6 mm H; Value: 220nF; Voltage - Rated: 50V; ESR: -; Dieletric: Y5V; Library Control - Checked Schematic: Yes; Library Control - Last Update: 25/08/22; Library Control - Person that Checked Schematic: Cage; Library Control - Person that did the Last Update Footprint: Cage; Library Control - Person that did the Last Update Schematic: Cage; ComponentLink1Description: Datasheet; ComponentLink1URL: https://br.mouser.com/datasheet/2/427/vjw1bcbascomseries-1762447.pdf; ComponentLink2Description: Mouser Link; ComponentLink2URL: https://br.mouser.com/ProductDetail/Vishay-Vitramon/VJ0805V224ZXAPW1BC?qs=%2Fha2pyFadug9wUY8mt9BCtb9NAO57rqyauI5UsdHTq0jCu22zUHQzA%3D%3D
footprint C0805
pins: 1, 2

## VZS101M1ETR-0606
designator C?, comment 100uF
CAP POL SMD 100uF 25V 6.3mm x 5.7mm; Manufacturer: Lelon; Part Number: VZS101M1ETR-0606; Tolerance: 20%; ESR: 260 mOhms; Dieletric: Aluminum; Library Control - Checked Footprint: Yes; Library Control - Person that Checked Footprint: Nikaum; Library Control - Person that did the Last Update Footprint: Prisma; Supplier 1: Mouser; Category: Electrolytic Capacitors; Price: 1=0,31, 100=0,24, 500=0,19 (USD); Supplier Part Number 1: 140-VZS101M1ETR0606; Library Ref: Capacitor; Operating Temperature: -55 C ~ 105 C; Package / Case: 0606; Size / Dimension: 6,30 D x 5,70 L; Value: 100uF; Voltage - Rated: 25V; Library Control - Checked Schematic: Yes; Library Control - Last Update: 25/08/22; Library Control - Person that Checked Schematic: Nikaum; Library Control - Person that did the Last Update Schematic: Prisma; ComponentLink1Description: Mouser Link; ComponentLink1URL: https://br.mouser.com/ProductDetail/Lelon/VZS101M1ETR-0606?qs=%2Fha2pyFadugfLDRVLKW3AQGrOe%252BSnNjsFKSTVGC7yF9W9U5gyiRCCjPFpmhdQCMH; ComponentLink2Description: Datasheet; ComponentLink2URL: https://br.mouser.com/datasheet/2/231/161587298653-2307449.pdf
footprint ALUMINUM SMD Ø6.3x5.7mm (Aluminum Electrolytic Capacitor, Body 6,70x6,70x5,80mm, IPC Low Density)
pins: 1, 2